# Altium footprint library Passives.PcbLib: 27 footprints (part 2 of 2)
Each footprint in its own frame and in the unit in brackets; x right, y up, seen from the top. Pads: shape width x height; smd on the part's side, far side on the other; paste and mask are expansions set on the pad; w line width, h text height; cw(c..) or ccw(c..) is an arc to the next point about the centre after c.
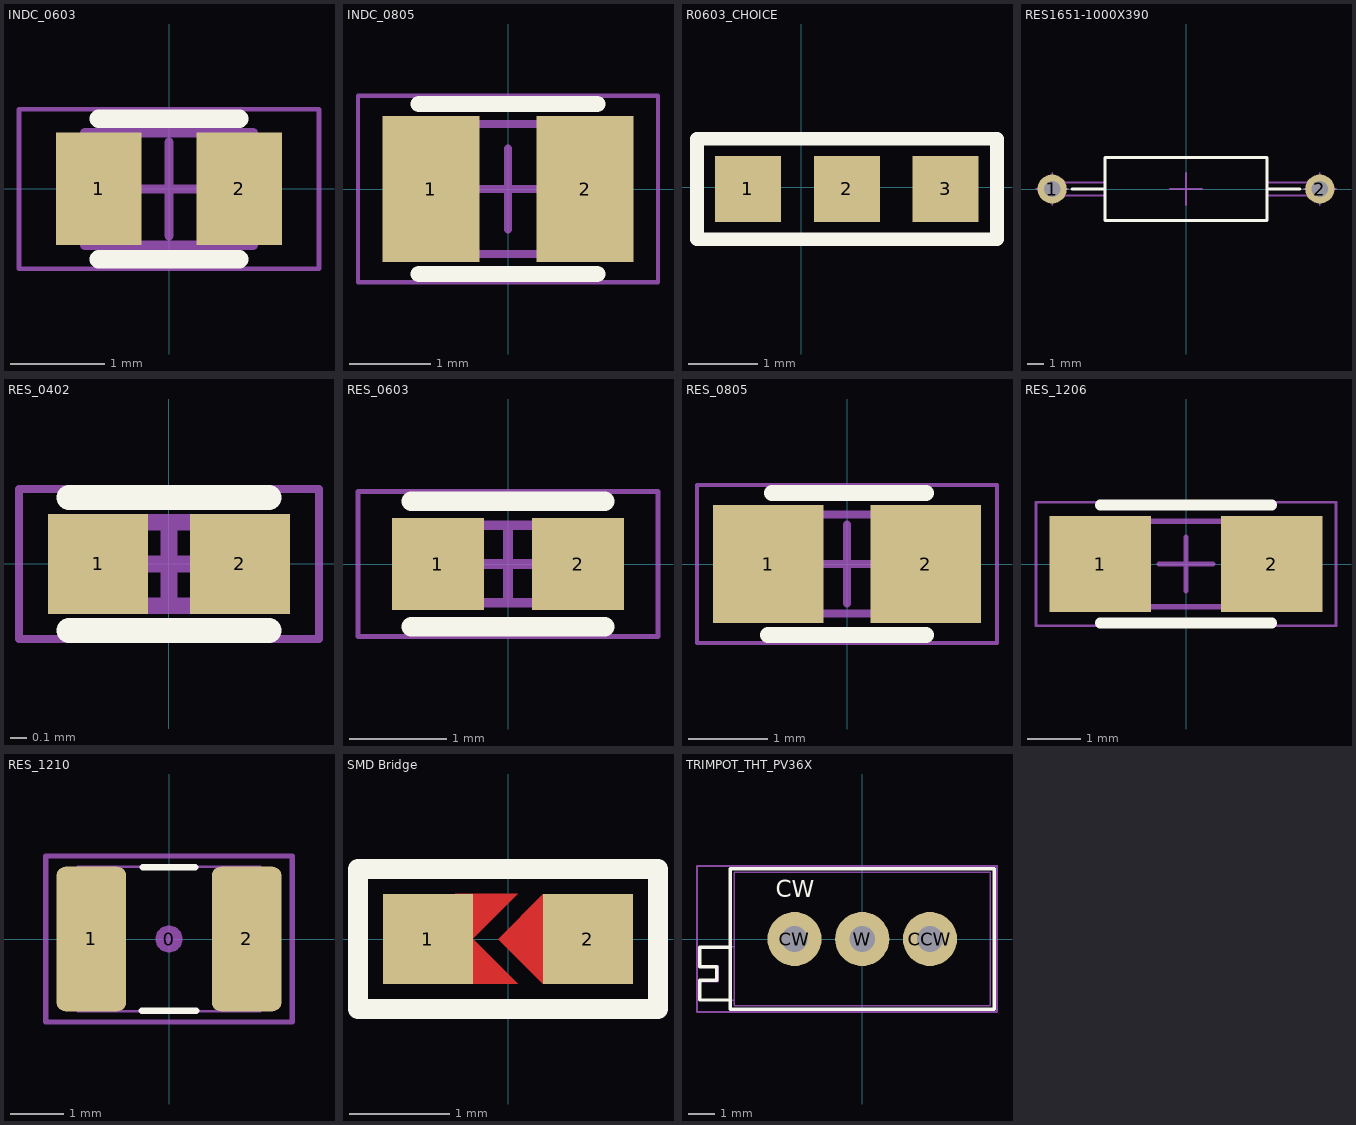
[diagram p1: the footprints below, top view; thin cyan lines are the x and y axes]

## INDC_0603 [mm] "Chip Inductor, 2-Leads, Body 1,60x1,00mm, IPC Medium Density"
height 1
pads (2):
  rect 0.91x1.2 smd: 1(-0.75,0) 2(0.75,0)
Top Overlay:
  lines w0.2: -0.75,-0.75 0.75,-0.75 ; -0.75,0.75 0.75,0.75
Mechanical 13:
  lines w0.1: -0.9,-0.6 -0.9,0.6 0.9,0.6 0.9,-0.6 -0.9,-0.6
Mechanical 15:
  lines w0.05: -1.6,-0.85 -1.6,0.85 1.6,0.85 1.6,-0.85 -1.6,-0.85
  lines w0.1: -0.5,0 0.5,0 ; 0,-0.5 0,0.5
3D body "Coilcraft-0603ME.step": height 0.83, standoff -0.01, extent -0.9,-0.589 0.9,0.589

## INDC_0805 [mm] "Chip Inductor, 2-Leads, Body 2,15x1,50mm, IPC Medium Density"
height 1.3
pads (2):
  rect 1.2x1.8 smd: 1(-0.95,0) 2(0.95,0)
Top Overlay:
  lines w0.2: -1.1,-1.05 1.1,-1.05 ; -1.1,1.05 1.1,1.05
Mechanical 13:
  lines w0.1: -1.15,-0.8 -1.15,0.8 1.15,0.8 1.15,-0.8 -1.15,-0.8
Mechanical 15:
  lines w0.05: -1.85,-1.15 -1.85,1.15 1.85,1.15 1.85,-1.15 -1.85,-1.15
  lines w0.1: -0.5,0 0.5,0 ; 0,-0.5 0,0.5
3D body "Coilcraft-0805HS.step": height 1.44, standoff -0.01, extent -1.09,-0.759 1.09,0.759

## R0603_CHOICE [mm] "0603 placement for choice line"
pads (3):
  rect 0.95x0.95 smd: 1(-0.765,-0.025) 2(0.66,-0.025) 3(2.085,-0.025)
Top Overlay:
  lines w0.2: -1.5,-0.75 -1.5,0.7 2.825,0.7 2.825,-0.75 -1.5,-0.75
3D body "User Library-Chip Resistor_0603 (1608).STEP": height 0.47, standoff 0, extent -0.825,-0.425 0.775,0.377

## RES1651-1000X390 [mm] "Resistor, Axial, Pad spacing 16.51mm - Body Lengh 10mm X Body Diameter 3.9mm"
height 3.9
pads (2):
  round 1.8 hole 1: 1(-8.255,0) 2(8.255,0)
Top Overlay:
  lines w0.2: -7.018,0 -5,0 ; 5,0 7.018,0 ; -5,-1.95 -5,1.95 ; -5,-1.95 5,-1.95 ; -5,-1.95 5,-1.95 ; -5,-1.95 -5,1.95 ; -5,1.95 5,1.95 ; -5,1.95 5,1.95 ; 5,-1.95 5,1.95 ; 5,-1.95 5,1.95
Mechanical 8:
  lines w0.1: -9.255,0 -8.255,0 ; -8.255,-1 -8.255,0 ; -8.255,1 -8.255,0 ; -7.255,0 -8.255,0 ; -1,0 0,0 ; 0,-1 0,0 ; 0,1 0,0 ; 1,0 0,0 ; 7.255,0 8.255,0 ; 8.255,-1 8.255,0 ; 8.255,1 8.255,0 ; 9.255,0 8.255,0
Mechanical 14:
  lines w0.1: -5,-0.4 -8.255,-0.4 cw(c-8.255,0) -8.255,0.4 -5,0.4 ; 5,-0.4 8.255,-0.4 ccw(c8.255,0) 8.255,0.4 5,0.4 ; -5,-1.95 5,-1.95 5,1.95 -5,1.95 -5,-1.95
3D body "RES1651-1000X390.stp": height 3.9, standoff -3.8, extent -8.645,-1.95 8.645,1.95

## RES_0402 [mm] "Chip Capacitor, 2-Leads, Body 1,00x0,50mm, IPC Medium Density"
height 0.4
pads (2):
  rect 0.6x0.6 smd: 1(-0.425,0) 2(0.425,0)
Top Overlay:
  lines w0.15: -0.6,-0.4 0.6,-0.4 ; -0.6,0.4 0.6,0.4
Mechanical 13:
  lines w0.1: -0.5,-0.25 0.5,-0.25 0.5,0.25 -0.5,0.25 -0.5,-0.25
Mechanical 15:
  lines w0.05: -0.9,-0.45 0.9,-0.45 0.9,0.45 -0.9,0.45 -0.9,-0.45
  lines w0.1: -0.25,0 0.25,0 ; 0,-0.25 0,0.25
3D body "Chip Resistor 0402.step": height 0.4, standoff 0, extent -0.5,-0.25 0.5,0.25

## RES_0603 [mm] "Chip Capacitor, 2-Leads, Body 1,60x0,80mm, IPC Medium Density"
height 0.55
pads (2):
  rect 0.95x0.95 smd: 1(-0.725,0) 2(0.725,0)
Top Overlay:
  lines w0.2: -1,-0.65 1,-0.65 ; -1,0.65 1,0.65
Mechanical 13:
  lines w0.1: -0.8,-0.4 -0.8,0.4 0.8,0.4 0.8,-0.4 -0.8,-0.4
Mechanical 15:
  lines w0.05: -1.55,-0.75 -1.55,0.75 1.55,0.75 1.55,-0.75 -1.55,-0.75
  lines w0.1: -0.4,0 0.4,0 ; 0,-0.4 0,0.4
3D body "Chip Resistor 0603.step": height 0.5, standoff 0, extent -0.8,-0.4 0.8,0.4

## RES_0805 [mm] "Chip Resistor, 2-Leads, Body 2,00x1,25mm, IPC Medium Density"
height 0.65
pads (2):
  rect 1.4x1.5 smd: 1(-1,0) 2(1,0)
Top Overlay:
  lines w0.2: -1,-0.9 1,-0.9 ; -0.95,0.9 1,0.9
Mechanical 13:
  lines w0.1: -1,-0.625 1,-0.625 1,0.625 -1,0.625 -1,-0.625
Mechanical 15:
  lines w0.05: -1.9,-1 1.9,-1 1.9,1 -1.9,1 -1.9,-1
  lines w0.1: -0.5,0 0.5,0 ; 0,-0.5 0,0.5
3D body "Chip Resistor 0805.step": height 0.5, standoff 0, extent -1,-0.6 1,0.6

## RES_1206 [mm] "Chip Resistor, 2-Leads, Body 3,15x1,60mm, IPC Medium Density"
height 0.7
pads (2):
  rect 1.9x1.8 smd: 1(-1.6,0) 2(1.6,0)
Top Overlay:
  lines w0.2: -1.6,-1.1 1.6,-1.1 ; -1.6,1.1 1.6,1.1
Mechanical 13:
  lines w0.1: -1.6,-0.8 1.6,-0.8 1.6,0.8 -1.6,0.8 -1.6,-0.8
Mechanical 15:
  lines w0.05: -2.8,-1.15 2.8,-1.15 2.8,1.15 -2.8,1.15 -2.8,-1.15
  lines w0.1: -0.5,0 0.5,0 ; 0,-0.5 0,0.5
3D body "Chip Resistor 1206.step": height 0.6, standoff 0, extent -1.6,-0.8 1.6,0.8

## RES_1210 [mm] "Chip Resistor, Body 3.2x2.5mm, EIA 1210, IPC Medium Density"
height 0.7
pads (3):
  round 0.508 on Mech15: 0(0,0)
  rrect25% 1.3x2.7 smd: 1(-1.45,0) 2(1.45,0)
Top Overlay:
  lines w0.127: -0.508,-1.339 0.508,-1.339 ; -0.483,1.339 0.483,1.339
Mechanical 13:
  lines w0.05: -1.7,-1.35 -1.1,-1.35 -1.1,1.35 -1.7,1.35 -1.7,-1.35 ; -1.1,-1.349 1.1,-1.349 -1.1,-1.349 ; -1.1,1.349 1.1,1.349 -1.1,1.349 ; 1.1,-1.35 1.1,1.35 1.7,1.35 1.7,-1.35 1.1,-1.35
Mechanical 15:
  lines w0.1: -2.3,-1.55 -2.3,1.55 2.3,1.55 2.3,-1.55 -2.3,-1.55
3D body "RES 1210 (3225 metric).STEP": height 0.69, standoff -0.01, extent -1.7,-1.35 1.7,1.35

## SMD Bridge [mm]
pads (2):
  rect 0.9x0.9 smd: 1(-0.8,0) 2(0.8,0)
Top Layer:
  region: -0.525,0.45 0.1,0.45 -0.35,0 0.1,-0.45 -0.525,-0.45
  region: 0.35,0.45 -0.1,0 0.35,-0.45 0.5,-0.45 0.5,0.45
Top Overlay:
  lines w0.2: -1.5,-0.7 -1.5,0.7 1.5,0.7 1.5,-0.7 -1.5,-0.7
Top Solder:
  rectangle: -0.125,-0.55 0.525,0.55

## TRIMPOT_THT_PV36X [mil] "TRIMMER, MURATA, PV36X"
height 393.7
pads (3):
  round 80 hole 38: CCW(100,0) CW(-100,0) W(0,0)
Top Overlay:
  lines w5: -195,-90 -240,-90 -240,-61 -215,-61 -215,-41 -240,-41 -240,-12 -195,-12 ; -195,-104 -195,104 195,104 195,-104 -195,-104
  text "CW" at -127.56,61.69 h25
Mechanical 13:
  lines w1.97: -188.98,-90.55 -240.16,-90.55 -240.16,-62.99 -212.6,-62.99 -212.6,-39.37 -240.16,-39.37 -240.16,-11.81 -188.98,-11.81 ; -188.98,-98.43 188.98,-98.43 188.98,98.43 -188.98,98.43 -188.98,-98.43
Mechanical 15:
  lines w3: -244,-108 199,-108 199,108 -244,108 -244,-108
3D body "Trimmer PV36 Side Adjust.STEP": height 393.7, standoff -110.24, extent -240.16,-98.42 188.98,98.43